# Altium footprint library transistor-power.PCBLIB: 90 footprints (part 3 of 6)
Each footprint in its own frame and in the unit in brackets; x right, y up, seen from the top. Pads: shape width x height; smd on the part's side, far side on the other; paste and mask are expansions set on the pad; w line width, h text height; cw(c..) or ccw(c..) is an arc to the next point about the centre after c.
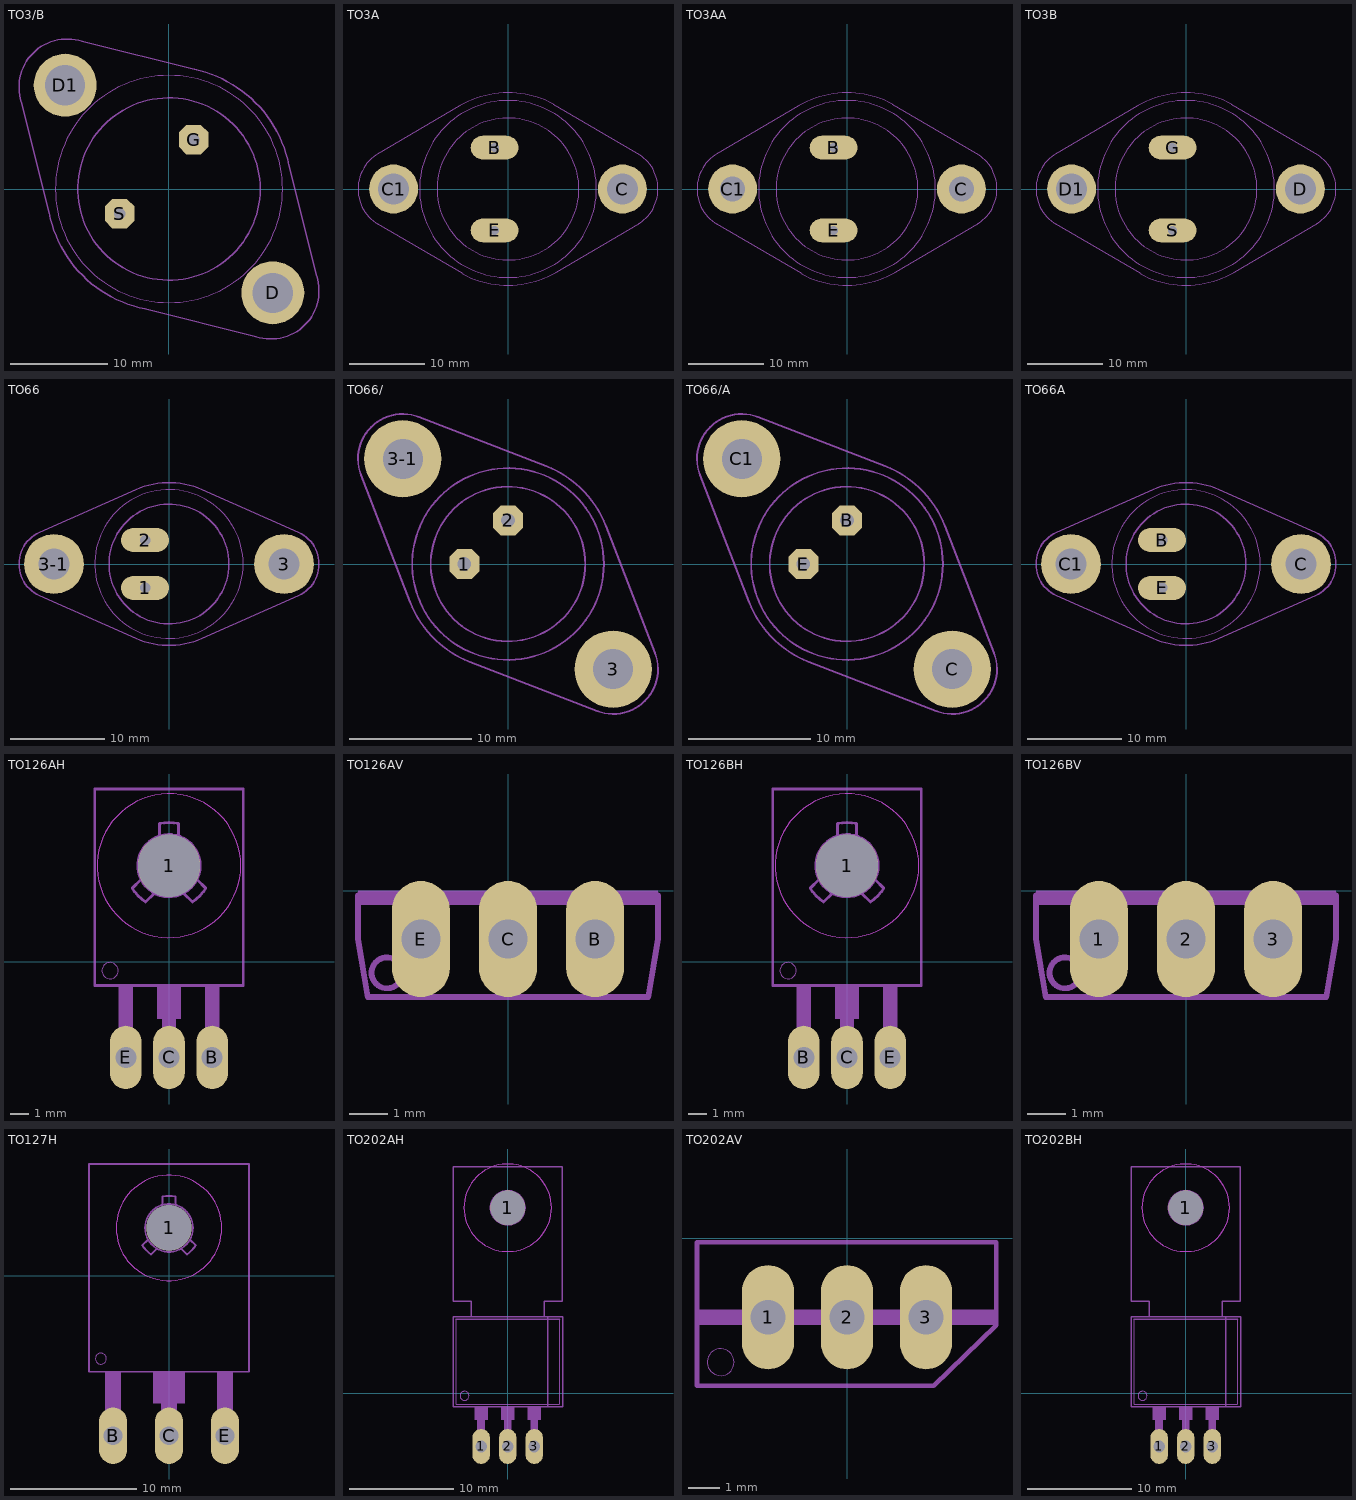
[diagram p2: the footprints below, top view; thin cyan lines are the x and y axes]

## TO3/B [mil]
pads (4):
  round 255 hole 162: D(420,-420) D1(-420,420)
  oct 120.06x120.06 hole 47: G(100,200) S(-200,-100)
Mechanical 2:
  circle w6: c0,0 r369
  circle w2: c0,0 r460
  lines w6: -598,354 -485,-98 ; -597.47,351.27 cw(c-412,412) -550,550 cw(c-411.99,412) -350.88,597.35 ; -485.36,-97.07 ccw(c0,0) -350,-350 ccw(c0,0) -97.07,-485.36 ; -354,598 118,480 ; -98,-485 354,-598 ; 103.71,483.99 cw(c-0.01,0) 350,350 cw(c0,0) 485.36,97.07 ; 350.88,-597.34 ccw(c411.99,-412) 549.99,-549.99 ccw(c412,-411.99) 597.48,-351.27 ; 485,98 598,-354
Mechanical 18:
  circle w6: c420,-420 r85
  circle w6: c-420,420 r85

## TO3A [mil]
pads (4):
  oval 248x124 hole 47: B(-70,215) E(-70,-215)
  round 255 hole 162: C(595,0) C1(-595,0)
Mechanical 2:
  circle w6: c0,0 r369
  circle w2: c0,0 r460
  lines w6: -680,180 -250,433 ; -679,-181 -234,-442 ; -675.41,-183.35 cw(c-567,0) -780,0 cw(c-567,0) -672.94,184.78 ; -250.86,432.52 cw(c-0.01,0) 0,500 cw(c0.01,-0.01) 235.3,441.18 ; -235.3,-441.18 ccw(c-0.01,0.01) 0,-500 ccw(c0.01,0) 250.86,-432.52 ; 235,441 684,178 ; 251,-433 684,-178 ; 682.54,-178.94 ccw(c567,0) 780,0 ccw(c567,0) 682.54,178.94
Mechanical 18:
  circle w6: c595,0 r85
  circle w6: c-595,0 r85

## TO3AA [mil]
pads (4):
  oval 248x124 hole 47: B(-70,215) E(-70,-215)
  round 255 hole 130: C(595,0) C1(-595,0)
Mechanical 2:
  circle w6: c0,0 r369
  circle w2: c0,0 r460
  lines w6: -680,180 -250,433 ; -679,-181 -234,-442 ; -675.41,-183.35 cw(c-567,0) -780,0 cw(c-567,0) -672.94,184.78 ; -250.86,432.52 cw(c-0.01,0) 0,500 cw(c0.01,-0.01) 235.3,441.18 ; -235.3,-441.18 ccw(c-0.01,0.01) 0,-500 ccw(c0.01,0) 250.86,-432.52 ; 235,441 684,178 ; 251,-433 684,-178 ; 682.54,-178.94 ccw(c567,0) 780,0 ccw(c567,0) 682.54,178.94
Mechanical 18:
  circle w6: c595,0 r85
  circle w6: c-595,0 r85

## TO3B [mil]
pads (4):
  round 255 hole 162: D(595,0) D1(-595,0)
  oval 248x124 hole 47: G(-70,215) S(-70,-215)
Mechanical 2:
  circle w6: c0,0 r369
  circle w2: c0,0 r460
  lines w6: -680,180 -250,433 ; -679,-181 -234,-442 ; -675.41,-183.35 cw(c-567,0) -780,0 cw(c-567,0) -672.94,184.78 ; -250.86,432.52 cw(c-0.01,0) 0,500 cw(c0.01,-0.01) 235.3,441.18 ; -235.3,-441.18 ccw(c-0.01,0.01) 0,-500 ccw(c0.01,0) 250.86,-432.52 ; 235,441 684,178 ; 251,-433 684,-178 ; 682.54,-178.94 ccw(c567,0) 780,0 ccw(c567,0) 682.54,178.94
Mechanical 18:
  circle w6: c595,0 r85
  circle w6: c-595,0 r85

## TO66 [mil]
pads (4):
  oval 200x100 hole 44: 1(-100,-100) 2(-100,100)
  round 250 hole 130: 3(480,0) 3-1(-480,0)
Mechanical 2:
  circle w2: c0,0 r310
  circle w6: c0,0 r250
  lines w6: -539.78,-132.55 cw(c-481,0) -539.78,132.55 -137.84,310.81 cw(c0,0) 137.84,310.81 539.78,132.55 cw(c481,0) 539.78,-132.55 137.84,-310.81 cw(c0,0) -137.84,-310.81 -539.78,-132.55
Mechanical 18:
  circle w6: c-480,0 r75
  circle w6: c480,0 r75

## TO66/ [mil]
pads (4):
  oct 96.82x96.82 hole 44: 1(-141,0) 2(0,141)
  round 250 hole 130: 3(340,-340) 3-1(-340,340)
Mechanical 2:
  circle w6: c0,0 r310
  circle w6: c0,0 r250
  lines w6: -475.41,287.96 -317.24,-122.31 ccw(c-0.01,-0.01) -122.31,-317.24 287.96,-475.41 ccw(c340.12,-340.12) 475.41,-287.96 317.24,122.31 ccw(c0.01,0.01) 122.31,317.24 -287.96,475.41 ccw(c-340.12,340.12) -475.41,287.96
Mechanical 18:
  circle w6: c-339.41,339.41 r75
  circle w6: c339.41,-339.41 r75

## TO66/A [mil]
pads (4):
  oct 96.82x96.82 hole 44: B(0,141) E(-141,0)
  round 250 hole 130: C(340,-340) C1(-340,340)
Mechanical 2:
  circle w6: c0,0 r310
  circle w6: c0,0 r250
  lines w6: -475.41,287.96 -317.24,-122.31 ccw(c-0.01,-0.01) -122.31,-317.24 287.96,-475.41 ccw(c340.12,-340.12) 475.41,-287.96 317.24,122.31 ccw(c0.01,0.01) 122.31,317.24 -287.96,475.41 ccw(c-340.12,340.12) -475.41,287.96
Mechanical 18:
  circle w6: c-339.41,339.41 r75
  circle w6: c339.41,-339.41 r75

## TO66A [mil]
pads (4):
  oval 200x100 hole 44: B(-100,100) E(-100,-100)
  round 250 hole 130: C(480,0) C1(-480,0)
Mechanical 2:
  circle w2: c0,0 r310
  circle w6: c0,0 r250
  lines w6: -539.78,-132.55 cw(c-481,0) -539.78,132.55 -137.84,310.81 cw(c0,0) 137.84,310.81 539.78,132.55 cw(c481,0) 539.78,-132.55 137.84,-310.81 cw(c0,0) -137.84,-310.81 -539.78,-132.55
Mechanical 18:
  circle w6: c-480,0 r75
  circle w6: c480,0 r75

## TO126AH [mil]
pads (4):
  round 130 hole 130: 1(0,200)
  oval 66x132 hole 44: B(90,-200) C(0,-200) E(-90,-200)
Mechanical 2:
  circle w0: c-123,-19 r17
  circle w6: c0,200 r65
  rectangle: -25,-120 25,-50
  rectangle: -105,-135 -75,-50
  rectangle: -15,-135 15,-50
  rectangle: 75,-135 105,-50
  lines w6: -58.22,171.09 -76.74,152.98 ccw(c0,199.99) -48.79,124.37 -30.26,142.47 ; -20,261.85 -20,287.75 cw(c0,200) 20,287.75 20,261.85 ; 30.26,142.47 48.79,124.37 ccw(c0,199.99) 76.74,152.98 58.22,171.09 ; -155,-50 -155,360 155,360 155,-50 -155,-50
Mechanical 11 keep-out:
  circle w0: c0,200 r150
Mechanical 12:
  circle w0: c0,200 r150
Mechanical 18:
  rectangle: -105,-205 -75,-135
  rectangle: -15,-205 15,-135
  rectangle: 75,-205 105,-135

## TO126AV [mil]
pads (3):
  oval 60x120 hole 40: B(90,-50) C(0,-50) E(-90,-50)
Mechanical 2:
  rectangle: -155,-15 -125,0
  rectangle: -55,-15 -35,0
  rectangle: 35,-15 55,0
  rectangle: 125,-15 155,0
  lines w6: -155,-5 -155,-50 -145,-110 -110,-110 ; -70,-110 -20,-110 ; 20,-110 70,-110 ; 110,-110 145,-110 155,-50 155,-5
Mechanical 18:
  circle w6: c-125,-85 r16
  rectangle: -125,-15 -55,0
  rectangle: -35,-15 35,0
  rectangle: 55,-15 125,0
  lines w6: -110,-110 -70,-110 ; -20,-110 20,-110 ; 70,-110 110,-110

## TO126BH [mil]
pads (4):
  round 130 hole 130: 1(0,200)
  oval 66x132 hole 44: B(-90,-200) C(0,-200) E(90,-200)
Mechanical 2:
  circle w0: c-123,-19 r17
  circle w6: c0,200 r65
  rectangle: -25,-120 25,-50
  rectangle: -105,-135 -75,-50
  rectangle: -15,-135 15,-50
  rectangle: 75,-135 105,-50
  lines w6: -58.22,171.09 -76.74,152.98 ccw(c0,199.99) -48.79,124.37 -30.26,142.47 ; -20,261.85 -20,287.75 cw(c0,200) 20,287.75 20,261.85 ; 30.26,142.47 48.79,124.37 ccw(c0,199.99) 76.74,152.98 58.22,171.09 ; -155,-50 -155,360 155,360 155,-50 -155,-50
Mechanical 11 keep-out:
  circle w0: c0,200 r150
Mechanical 12:
  circle w0: c0,200 r150
Mechanical 18:
  rectangle: -105,-205 -75,-135
  rectangle: -15,-205 15,-135
  rectangle: 75,-205 105,-135

## TO126BV [mil]
pads (3):
  oval 60x120 hole 40: 1(-90,-50) 2(0,-50) 3(90,-50)
Mechanical 2:
  circle w6: c-125,-85 r16
  rectangle: -155,-15 -125,0
  rectangle: -55,-15 -35,0
  rectangle: 35,-15 55,0
  rectangle: 125,-15 155,0
  lines w6: -155,-5 -155,-50 -145,-110 145,-110 155,-50 155,-5
Mechanical 18:
  rectangle: -125,-15 -55,0
  rectangle: -35,-15 35,0
  rectangle: 55,-15 125,0

## TO127H [mil]
pads (4):
  round 142 hole 142: 1(0,150)
  oval 88.5x177 hole 59: B(-175,-500) C(0,-500) E(175,-500)
Mechanical 2:
  circle w0: c-213,-259 r17
  circle w6: c0,150 r75
  rectangle: -50,-400 50,-300
  rectangle: -200,-435 -150,-300
  rectangle: -25,-435 25,-300
  rectangle: 150,-435 200,-300
  lines w6: -65.68,113.79 -84.06,95.83 ccw(c0,149.99) -56.11,67.22 -37.73,85.18 ; -20,222.28 -20,247.98 cw(c0,150) 20,247.98 20,222.28 ; 37.73,85.18 56.11,67.22 ccw(c0,149.99) 84.06,95.83 65.68,113.79 ; -250,-300 -250,350 250,350 250,-300 -250,-300
Mechanical 11 keep-out:
  circle w0: c0,150 r165
Mechanical 12:
  circle w0: c0,150 r165
Mechanical 18:
  rectangle: -200,-505 -150,-435
  rectangle: -25,-505 25,-435
  rectangle: 150,-505 200,-435

## TO202AH [mil]
pads (4):
  oval 66x132 hole 44: 1(-100,-200) 2(0,-200) 3(100,-200)
  round 130 hole 130: 1(0,700)
Mechanical 2:
  circle w0: c-163,-9 r17
  circle w6: c0,700 r65
  rectangle: -25,-100 25,-50
  rectangle: 75,-100 125,-50
  rectangle: -125,-100 -75,-50
  rectangle: -115,-135 -85,-100
  rectangle: -15,-135 15,-100
  rectangle: 85,-135 115,-100
  lines w2: -195,280 -195,-40 195,-40 195,280
  lines w6: -195,280 195,280 ; -138,289 -138,347 -205,347 -205,855 205,855 205,347 138,347 138,289 ; -138,289 -205,289 -205,-50 151,-50 ; -138,289 138,289 ; 138,289 151,289 ; 151,-50 151,289 ; 151,-50 207,-50 207,289 151,289
Mechanical 11 keep-out:
  circle w0: c0,700 r165
Mechanical 12:
  circle w0: c0,700 r165
Mechanical 18:
  rectangle: -115,-205 -85,-135
  rectangle: -15,-205 15,-135
  rectangle: 85,-205 115,-135

## TO202AV [mil]
pads (3):
  oval 66x132 hole 44: 1(-100,-100) 2(0,-100) 3(100,-100)
Mechanical 2:
  circle w0: c-160,-157 r17
  rectangle: 135,-110 190,-90
  rectangle: 35,-110 65,-90
  rectangle: -65,-110 -35,-90
  rectangle: -190,-110 -135,-90
  lines w6: -190,-187 110,-187 189,-110 189,-5 -190,-5 -190,-187
Mechanical 18:
  rectangle: -135,-110 -65,-90
  rectangle: -35,-110 35,-90
  rectangle: 65,-110 135,-90

## TO202BH [mil]
pads (4):
  oval 66x132 hole 44: 1(-100,-200) 2(0,-200) 3(100,-200)
  round 130 hole 130: 1(0,700)
Mechanical 2:
  circle w0: c-163,-9 r17
  circle w6: c0,700 r65
  rectangle: -25,-100 25,-50
  rectangle: 75,-100 125,-50
  rectangle: -125,-100 -75,-50
  rectangle: -115,-135 -85,-100
  rectangle: -15,-135 15,-100
  rectangle: 85,-135 115,-100
  lines w2: -195,280 -195,-40 195,-40 195,280
  lines w6: -195,280 195,280 ; -138,289 -138,347 -205,347 -205,855 205,855 205,347 138,347 138,289 ; -138,289 -205,289 -205,-50 151,-50 ; -138,289 138,289 ; 138,289 151,289 ; 151,-50 151,289 ; 151,-50 207,-50 207,289 151,289
Mechanical 11 keep-out:
  circle w0: c0,700 r165
Mechanical 12:
  circle w0: c0,700 r165
Mechanical 18:
  rectangle: -115,-205 -85,-135
  rectangle: -15,-205 15,-135
  rectangle: 85,-205 115,-135